# Altium schematic symbol library Buzzers.SchLib: 1 symbol
Pins are listed as number, name and electrical type; pins without a type are passive.

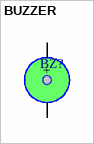
[diagram p0: symbol BUZZER]

## BUZZER
designator BZ?  (value not drawn)
footprint BUZZER-6.35 (Footprint not found)
footprint BUZZER-7.62 (Footprint not found)
footprint BUZZER-SMD (Footprint not found)
pins: 1 +, 2